# EAGLE library part CY7C68013-100 (library IC)
Cypress CY7C68013A USB Microcontroller in a TQFP100 package
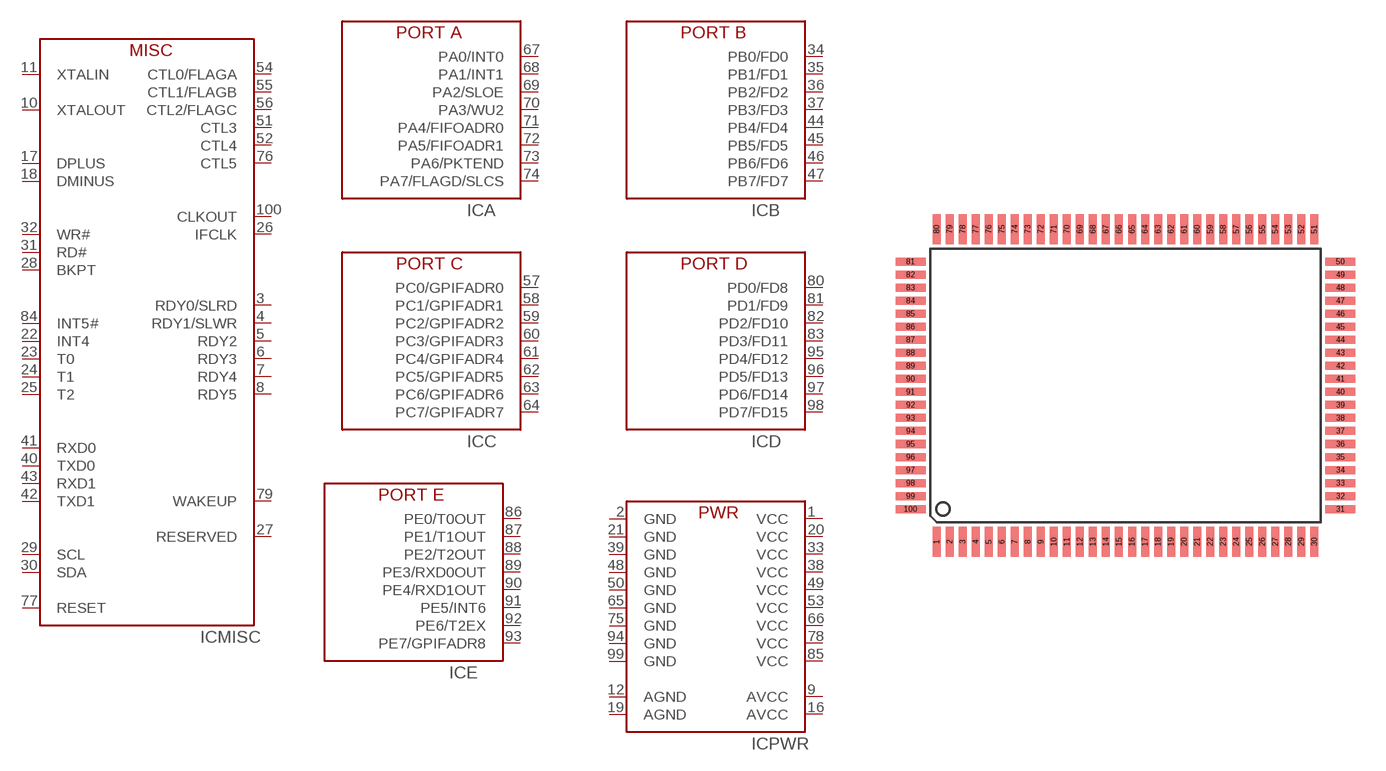
[diagram p109: symbol with the pads of TQFP100R; footprint TQFP100R]

Designator prefix IC; gates A=CY7C68013-PA B=CY7C68013-PB C=CY7C68013-PC D=CY7C68013-PD E=CY7C68013-PE MISC=CY7C68013-MISC100 PWR=CY7C68013-PWR100

## CY7C68013-100  [TQFP100R]
1  PWR:VCC  pwr
2  PWR:GND  pwr
3  MISC:RDY0/SLRD
4  MISC:RDY1/SLWR
5  MISC:RDY2
6  MISC:RDY3
7  MISC:RDY4
8  MISC:RDY5
9  PWR:AVCC  pwr
10  MISC:XTALOUT
11  MISC:XTALIN
12  PWR:AGND  pwr
16  PWR:AVCC  pwr
17  MISC:DPLUS
18  MISC:DMINUS
19  PWR:AGND  pwr
20  PWR:VCC  pwr
21  PWR:GND  pwr
22  MISC:INT4
23  MISC:T0
24  MISC:T1
25  MISC:T2
26  MISC:IFCLK
27  MISC:RESERVED
28  MISC:BKPT
29  MISC:SCL
30  MISC:SDA
31  MISC:RD#
32  MISC:WR#
33  PWR:VCC  pwr
34  B:PB0/FD0
35  B:PB1/FD1
36  B:PB2/FD2
37  B:PB3/FD3
38  PWR:VCC  pwr
39  PWR:GND  pwr
40  MISC:TXD0
41  MISC:RXD0
42  MISC:TXD1
43  MISC:RXD1
44  B:PB4/FD4
45  B:PB5/FD5
46  B:PB6/FD6
47  B:PB7/FD7
48  PWR:GND  pwr
49  PWR:VCC  pwr
50  PWR:GND  pwr
51  MISC:CTL3
52  MISC:CTL4
53  PWR:VCC  pwr
54  MISC:CTL0/FLAGA
55  MISC:CTL1/FLAGB
56  MISC:CTL2/FLAGC
57  C:PC0/GPIFADR0
58  C:PC1/GPIFADR1
59  C:PC2/GPIFADR2
60  C:PC3/GPIFADR3
61  C:PC4/GPIFADR4
62  C:PC5/GPIFADR5
63  C:PC6/GPIFADR6
64  C:PC7/GPIFADR7
65  PWR:GND  pwr
66  PWR:VCC  pwr
67  A:PA0/INT0
68  A:PA1/INT1
69  A:PA2/SLOE
70  A:PA3/WU2
71  A:PA4/FIFOADR0
72  A:PA5/FIFOADR1
73  A:PA6/PKTEND
74  A:PA7/FLAGD/SLCS
75  PWR:GND  pwr
76  MISC:CTL5
77  MISC:RESET
78  PWR:VCC  pwr
79  MISC:WAKEUP
80  D:PD0/FD8
81  D:PD1/FD9
82  D:PD2/FD10
83  D:PD3/FD11
84  MISC:INT5#
85  PWR:VCC  pwr
86  E:PE0/T0OUT
87  E:PE1/T1OUT
88  E:PE2/T2OUT
89  E:PE3/RXD0OUT
90  E:PE4/RXD1OUT
91  E:PE5/INT6
92  E:PE6/T2EX
93  E:PE7/GPIFADR8
94  PWR:GND  pwr
95  D:PD4/FD12
96  D:PD5/FD13
97  D:PD6/FD14
98  D:PD7/FD15
99  PWR:GND  pwr
100  MISC:CLKOUT

## Footprint TQFP100R (pad centres in mm)
TQFP100, 0.65mm pitch, 30x20 rectangular
smd 0.4 x 1.5: 1 -9.425,-7.8; 2 -8.775,-7.8; 3 -8.125,-7.8; 4 -7.475,-7.8; 5 -6.825,-7.8; 6 -6.175,-7.8; 7 -5.525,-7.8; 8 -4.875,-7.8; 9 -4.225,-7.8; 10 -3.575,-7.8; 11 -2.925,-7.8; 12 -2.275,-7.8; 13 -1.625,-7.8; 14 -0.975,-7.8; 15 -0.325,-7.8; 16 0.325,-7.8; 17 0.975,-7.8; 18 1.625,-7.8; 19 2.275,-7.8; 20 2.925,-7.8; 21 3.575,-7.8; 22 4.225,-7.8; 23 4.875,-7.8; 24 5.525,-7.8; 25 6.175,-7.8; 26 6.825,-7.8; 27 7.475,-7.8; 28 8.125,-7.8; 29 8.775,-7.8; 30 9.425,-7.8; 51 9.425,7.8; 52 8.775,7.8; 53 8.125,7.8; 54 7.475,7.8; 55 6.825,7.8; 56 6.175,7.8; 57 5.525,7.8; 58 4.875,7.8; 59 4.225,7.8; 60 3.575,7.8; 61 2.925,7.8; 62 2.275,7.8; 63 1.625,7.8; 64 0.975,7.8; 65 0.325,7.8; 66 -0.325,7.8; 67 -0.975,7.8; 68 -1.625,7.8; 69 -2.275,7.8; 70 -2.925,7.8; 71 -3.575,7.8; 72 -4.225,7.8; 73 -4.875,7.8; 74 -5.525,7.8; 75 -6.175,7.8; 76 -6.825,7.8; 77 -7.475,7.8; 78 -8.125,7.8; 79 -8.775,7.8; 80 -9.425,7.8
smd 1.5 x 0.4: 31 10.725,-6.175; 32 10.725,-5.525; 33 10.725,-4.875; 34 10.725,-4.225; 35 10.725,-3.575; 36 10.725,-2.925; 37 10.725,-2.275; 38 10.725,-1.625; 39 10.725,-0.975; 40 10.725,-0.325; 41 10.725,0.325; 42 10.725,0.975; 43 10.725,1.625; 44 10.725,2.275; 45 10.725,2.925; 46 10.725,3.575; 47 10.725,4.225; 48 10.725,4.875; 49 10.725,5.525; 50 10.725,6.175; 81 -10.725,6.175; 82 -10.725,5.525; 83 -10.725,4.875; 84 -10.725,4.225; 85 -10.725,3.575; 86 -10.725,2.925; 87 -10.725,2.275; 88 -10.725,1.625; 89 -10.725,0.975; 90 -10.725,0.325; 91 -10.725,-0.325; 92 -10.725,-0.975; 93 -10.725,-1.625; 94 -10.725,-2.275; 95 -10.725,-2.925; 96 -10.725,-3.575; 97 -10.725,-4.225; 98 -10.725,-4.875; 99 -10.725,-5.525; 100 -10.725,-6.175